# EAGLE library part DOUBLE-SIDE_CON6 (library A10-A20-OLINUXINO-MICRO-4GB_Rev_D)
CONNECTORS - 6 PINS
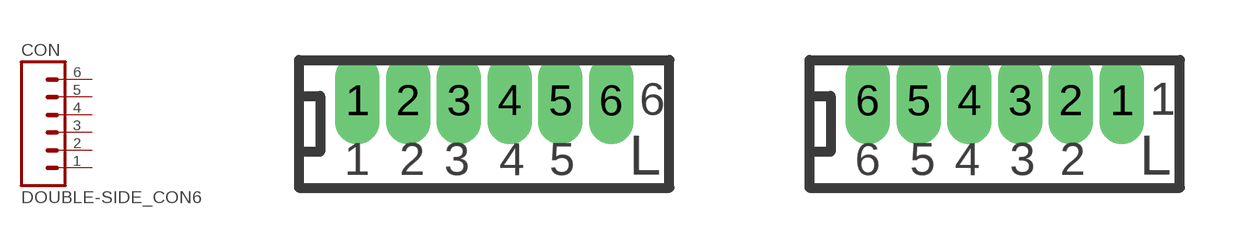
[diagram p0: symbol with the pads of DOUBLE-SIDE_CON1.27MM-6-SMALL_ICSP; footprints DOUBLE-SIDE_CON1.27MM-6-SMALL_ICSP, DOUBLE-SIDE_CON1.27MM-6-SMALL_TRANSITIVE]

Designator prefix CON

## DOUBLE-SIDE_CON6  [DOUBLE-SIDE_CON1.27MM-6-SMALL_ICSP]
1  1  pas
2  2  pas
3  3  pas
4  4  pas
5  5  pas
6  6  pas

## DOUBLE-SIDE_CON61.27MM-6-SMALL  [DOUBLE-SIDE_CON1.27MM-6-SMALL_TRANSITIVE]
Pads as for DOUBLE-SIDE_CON1.27MM-6-SMALL_ICSP

## DOUBLE-SIDE_CON62.54-0-D  [DOUBLE-SIDE_CON2.54MM-6-0D]
Pads as for DOUBLE-SIDE_CON1.27MM-6-SMALL_ICSP

## DOUBLE-SIDE_CON6HD107  [DOUBLE-SIDE_CON6-HD107]
Pads as for DOUBLE-SIDE_CON1.27MM-6-SMALL_ICSP

## DOUBLE-SIDE_CON6PH  [DOUBLE-SIDE_CON5.00MM-6-90]
Pads as for DOUBLE-SIDE_CON1.27MM-6-SMALL_ICSP

## DOUBLE-SIDE_CON6PR6-2.54MM  [DOUBLE-SIDE_CON2.54MM-6-90]
Pads as for DOUBLE-SIDE_CON1.27MM-6-SMALL_ICSP

## DOUBLE-SIDE_CON6PR6-3.96MM  [DOUBLE-SIDE_CON3.96MM-6-90]
Pads as for DOUBLE-SIDE_CON1.27MM-6-SMALL_ICSP

## DOUBLE-SIDE_CON6PV6-2.54MM  [DOUBLE-SIDE_CON2.54MM-6-0]
Pads as for DOUBLE-SIDE_CON1.27MM-6-SMALL_ICSP

## DOUBLE-SIDE_CON6PV6-3.96MM  [DOUBLE-SIDE_CON3.96MM-6-0]
Pads as for DOUBLE-SIDE_CON1.27MM-6-SMALL_ICSP

## DOUBLE-SIDE_CON6TDOCU  [DOUBLE-SIDE_CON6_TDOCU]
Pads as for DOUBLE-SIDE_CON1.27MM-6-SMALL_ICSP

## DOUBLE-SIDE_CON6TELEFON  [DOUBLE-SIDE_CON_TELEFON]
Pads as for DOUBLE-SIDE_CON1.27MM-6-SMALL_ICSP

## Footprint DOUBLE-SIDE_CON1.27MM-6-SMALL_ICSP (pad centres in mm)
drill 0.6 pad 1.016 long: 1 -3.175,0; 2 -1.905,0; 3 -0.635,0; 4 0.635,0; 5 1.905,0; 6 3.175,0

## Footprint DOUBLE-SIDE_CON1.27MM-6-SMALL_TRANSITIVE (pad centres in mm)
drill 0.6 pad 1.016 long: 1 3.175,0; 2 1.905,0; 3 0.635,0; 4 -0.635,0; 5 -1.905,0; 6 -3.175,0

## Footprint DOUBLE-SIDE_CON2.54MM-6-0D (pad centres in mm)
drill 1.092 pad 1.778 square: 1 -6.35,0
drill 1.092 pad 1.778: 2 -3.81,0; 3 -1.27,0; 4 1.27,0; 5 3.81,0; 6 6.35,0

## Footprint DOUBLE-SIDE_CON6-HD107 (pad centres in mm)
drill 1.8 pad 3.8 square: 1 -25,0
drill 1.8 pad 3.8: 2 -15,0; 3 -5,0; 4 5,0; 5 15,0; 6 25,0

## Footprint DOUBLE-SIDE_CON5.00MM-6-90 (pad centres in mm)
PHOENIX 500 MSTBA8 by con-phoenix-500.lbr
drill 1.6 long: 1 -12.5,8; 2 -7.5,8; 3 -2.5,8; 4 2.5,8; 5 7.5,8; 6 12.5,8

## Footprint DOUBLE-SIDE_CON2.54MM-6-90 (pad centres in mm)
2.54 mm PITCH CONNECTOR 2.54mm x 6- 90 degree Drill 1.1 mm (Pad inch 0.085)
drill 1.092 pad 1.778 square: 1 -6.35,0
drill 1.092 pad 1.778: 2 -3.81,0; 3 -1.27,0; 4 1.27,0; 5 3.81,0; 6 6.35,0

## Footprint DOUBLE-SIDE_CON3.96MM-6-90 (pad centres in mm)
3.96 mm PITCH CONNECTOR 3.96mm x 6 - 90 degree Drill 1.8 mm
drill 1.803 pad 2.921 square: 1 0,0
drill 1.803 pad 3.175: 2 3.962,0; 3 7.925,0; 4 11.887,0; 5 15.85,0; 6 19.812,0

## Footprint DOUBLE-SIDE_CON2.54MM-6-0 (pad centres in mm)
2.54 mm PITCH CONNECTOR 2.54mm x 6 - 0 degree Drill 1.1 mm (Pad inch 0.085)
drill 1.092 pad 1.778 square: 1 -6.35,0
drill 1.092 pad 1.778: 2 -3.81,0; 3 -1.27,0; 4 1.27,0; 5 3.81,0; 6 6.35,0

## Footprint DOUBLE-SIDE_CON3.96MM-6-0 (pad centres in mm)
3.96 mm PITCH CONNECTOR 3.96mm x 6 - 0 degree Drill 1.8 mm
drill 1.803 pad 2.921 square: 1 0,0
drill 1.803 pad 3.175: 2 3.962,0; 3 7.925,0; 4 11.887,0; 5 15.85,0; 6 19.812,0

## Footprint DOUBLE-SIDE_CON6_TDOCU (pad centres in mm)
drill 1.092 pad 1.93 square: 1 -6.35,0
drill 1.092 pad 1.93: 2 -3.81,0; 3 -1.27,0; 4 1.27,0; 5 3.81,0; 6 6.35,0

## Footprint DOUBLE-SIDE_CON_TELEFON (pad centres in mm)
drill 0.9 pad 1.499: 1 0,0; 2 1,2.54; 3 2,0; 4 3,2.54; 5 4,0; 6 5,2.54
hole 2.5 at -3.5,-2.13
hole 2.5 at 8.5,-2.13